# Altium footprint library POWERDI123.PcbLib: 1 footprints
Each footprint in its own frame and in the unit in brackets; x right, y up, seen from the top. Pads: shape width x height; smd on the part's side, far side on the other; paste and mask are expansions set on the pad; w line width, h text height; cw(c..) or ccw(c..) is an arc to the next point about the centre after c.
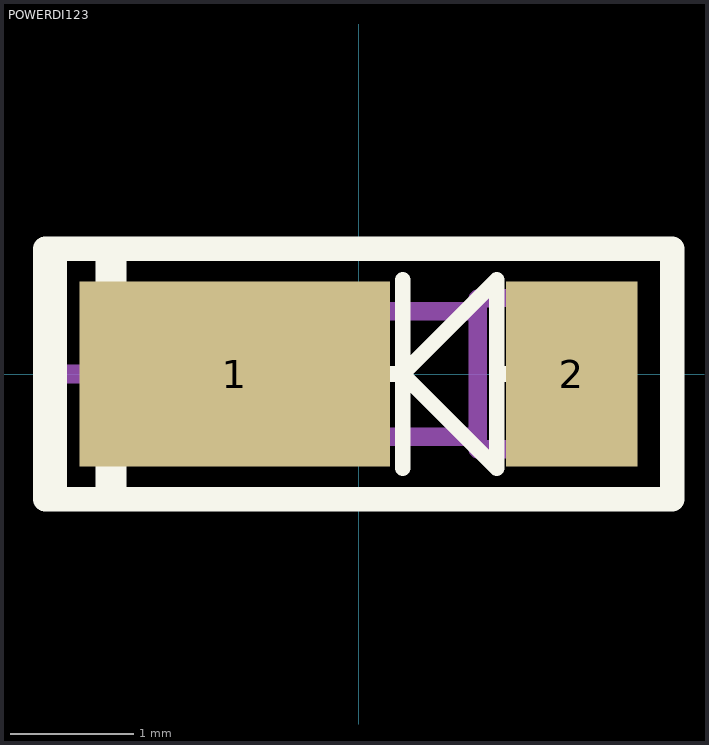
[diagram p0: the footprint, top view; thin cyan lines are the x and y axes]

## POWERDI123 [mil]
pads (2):
  rect 99x59.06 smd: 1(-39.5,0)
  rect 42x59.06 smd: 2(68,0)
Top Overlay:
  rectangle: -84,-40 -74,40
  rectangle: -103,-40 -93,40
  lines w5: -11,0 14,0 ; 14,-30 14,30 ; 44,0 69,0 ; 14,0 44,30 44,-30 14,0
  lines w7.87: -100,-40 -100,40 100,40 100,-40 -100,-40
Mechanical 13:
  lines w6: -99,0 -69,0 ; -84,-15 -84,15 ; -28,-20 -38,-10 ; -28,20 -38,10 ; -38,-20 -38,-24 -77,-24 -77,24 -38,24 -38,20 ; -38,-20 -38,-10 ; -38,-20 38,-20 ; -38,-10 -38,10 ; -38,-10 -38,10 ; -38,10 -38,20 ; -38,20 38,20 ; 38,-20 38,-24 77,-24 77,25 38,24 38,20 ; 38,-20 38,20